# EAGLE library part INA4180A1IPWR (library edrtech_lib)
Quad Channel, 26V, Low-/High-Side Voltage Output Current Sense Amplifier Source: Datasheet <http://www.ti.com/lit/gpn/ina4180>
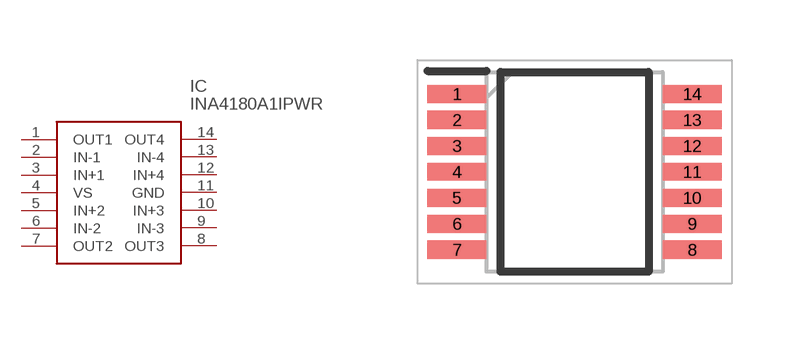
[diagram p30: symbol with the pads of SOP65P640X120-14N; footprint SOP65P640X120-14N]

Designator prefix IC

## INA4180A1IPWR (ARROW_PART_NUMBER: INA4180A1IPWR; ARROW_PRICE-STOCK: https://www.arrow.com/en/products/ina4180a1ipwr/texas-instruments?region=nac; DESCRIPTION: Quad Channel, 26V, Low-/High-Side Voltage Output Current Sense Amplifier; HEIGHT: 1.2mm; MANUFACTURER_NAME: Texas Instruments; MANUFACTURER_PART_NUMBER: INA4180A1IPWR; MOUSER_PART_NUMBER: 595-INA4180A1IPWR; MOUSER_PRICE-STOCK: https://www.mouser.co.uk/ProductDetail/Texas-Instruments/INA4180A1IPWR?qs=f9yNj16SXrIc8%252Bkjpx1s2w%3D%3D)  [SOP65P640X120-14N]
1  OUT1
2  IN-1
3  IN+1
4  VS
5  IN+2
6  IN-2
7  OUT2
8  OUT3
9  IN-3
10  IN+3
11  GND
12  IN+4
13  IN-4
14  OUT4

## Footprint SOP65P640X120-14N (pad centres in mm)
PW (R-PDSO-G14)
smd 1.475 x 0.45: 1 -2.938,1.95; 2 -2.938,1.3; 3 -2.938,0.65; 4 -2.938,0; 5 -2.938,-0.65; 6 -2.938,-1.3; 7 -2.938,-1.95; 8 2.938,-1.95; 9 2.938,-1.3; 10 2.938,-0.65; 11 2.938,0; 12 2.938,0.65; 13 2.938,1.3; 14 2.938,1.95